# Altium footprint library LTC7872HLXEWPBF.PcbLib: 3 footprints
Each footprint in its own frame and in the unit in brackets; x right, y up, seen from the top. Pads: shape width x height; smd on the part's side, far side on the other; paste and mask are expansions set on the pad; w line width, h text height; cw(c..) or ccw(c..) is an arc to the next point about the centre after c.
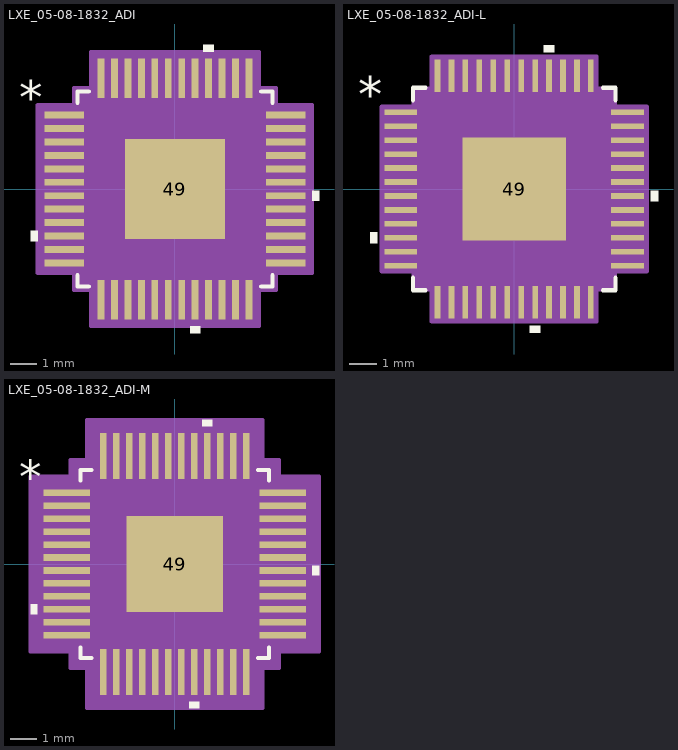
[diagram p0: the footprints below, top view; thin cyan lines are the x and y axes]

## LXE_05-08-1832_ADI [mil]
pads (49):
  rect 58x10 smd paste+0 mask+0: 1(-162,108.27) 2(-162,88.58) 3(-162,68.9) 4(-162,49.21) 5(-162,29.53) 6(-162,9.84) 7(-162,-9.84) 8(-162,-29.53) 9(-162,-49.21) 10(-162,-68.9) 11(-162,-88.58) 12(-162,-108.27) 25(162,-108.27) 26(162,-88.58) 27(162,-68.9) 28(162,-49.21) 29(162,-29.53) 30(162,-9.84) 31(162,9.84) 32(162,29.53) 33(162,49.21) 34(162,68.9) 35(162,88.58) 36(162,108.27)
  rect 10x58 smd paste+0 mask+0: 13(-108.27,-162) 14(-88.58,-162) 15(-68.9,-162) 16(-49.21,-162) 17(-29.53,-162) 18(-9.84,-162) 19(9.84,-162) 20(29.53,-162) 21(49.21,-162) 22(68.9,-162) 23(88.58,-162) 24(108.27,-162) 37(108.27,162) 38(88.58,162) 39(68.9,162) 40(49.21,162) 41(29.53,162) 42(9.84,162) 43(-9.84,162) 44(-29.53,162) 45(-49.21,162) 46(-68.9,162) 47(-88.58,162) 48(-108.27,162)
  rect 146x146 smd paste-72.5 mask+0: 49(0,0)
Top Overlay:
  region: 56.71,201 41.71,201 41.71,211 56.71,211
  region: 201,-2.34 211,-2.34 211,-17.34 201,-17.34
  region: 37.03,-201 22.03,-201 22.03,-211 37.03,-211
  region: -201,-61.4 -211,-61.4 -211,-76.4 -201,-76.4
  lines w6: -143,-126.37 -143,-143 -126.37,-143 ; -143,126.37 -143,143 -126.37,143 ; 126.37,-143 143,-143 143,-126.37 ; 126.37,143 143,143 143,126.37
  text ".Designator" at -137.5,-25 h50
  text "*" at -228.5,108.11 h50
Top Paste:
  region: 69.06,-3.94 3.94,-3.94 3.94,-69.06 69.06,-69.06
  region: 69.06,69.06 3.94,69.06 3.94,3.94 69.06,3.94
  region: -3.94,-3.94 -69.06,-3.94 -69.06,-69.06 -3.94,-69.06
  region: -3.94,69.06 -69.06,69.06 -69.06,3.94 -3.94,3.94
Mechanical 13:
  drawing of 197 lines, arcs and shapes, not listed
  text "*" at -135.5,93.11 h50
  text ".Designator" at -137.5,-25 h50
Mechanical 15:
  region: -123.27,-148 -148,-148 -148,-123.27 -201,-123.27 -201,123.27 -148,123.27 -148,148 -123.27,148 -123.27,201 123.27,201 123.27,148 148,148 148,123.27 201,123.27 201,-123.27 148,-123.27 148,-148 123.27,-148 123.27,-201 -123.27,-201
  lines w6: -201,-123.27 -201,123.27 -148,123.27 -148,148 -123.27,148 -123.27,201 123.27,201 123.27,148 148,148 148,123.27 201,123.27 201,-123.27 148,-123.27 148,-148 123.27,-148 123.27,-201 -123.27,-201 -123.27,-148 -148,-148 -148,-123.27 -201,-123.27
3D body "LXE_05-08-1832_ADI.step": height 63.11, standoff 0, extent -177.01,-177.01 177.01,177.01

## LXE_05-08-1832_ADI-L [mil]
pads (49):
  rect 46x8 smd paste+0 mask+0: 1(-160,108.27) 2(-160,88.58) 3(-160,68.9) 4(-160,49.21) 5(-160,29.53) 6(-160,9.84) 7(-160,-9.84) 8(-160,-29.53) 9(-160,-49.21) 10(-160,-68.9) 11(-160,-88.58) 12(-160,-108.27) 25(160,-108.27) 26(160,-88.58) 27(160,-68.9) 28(160,-49.21) 29(160,-29.53) 30(160,-9.84) 31(160,9.84) 32(160,29.53) 33(160,49.21) 34(160,68.9) 35(160,88.58) 36(160,108.27)
  rect 8x46 smd paste+0 mask+0: 13(-108.27,-160) 14(-88.58,-160) 15(-68.9,-160) 16(-49.21,-160) 17(-29.53,-160) 18(-9.84,-160) 19(9.84,-160) 20(29.53,-160) 21(49.21,-160) 22(68.9,-160) 23(88.58,-160) 24(108.27,-160) 37(108.27,160) 38(88.58,160) 39(68.9,160) 40(49.21,160) 41(29.53,160) 42(9.84,160) 43(-9.84,160) 44(-29.53,160) 45(-49.21,160) 46(-68.9,160) 47(-88.58,160) 48(-108.27,160)
  rect 146x146 smd paste-72.5 mask+0: 49(0,0)
Top Overlay:
  region: -193,-61.4 -203,-61.4 -203,-76.4 -193,-76.4
  region: 37.03,-193 22.03,-193 22.03,-203 37.03,-203
  region: 193,-2.34 203,-2.34 203,-17.34 193,-17.34
  region: 56.71,193 41.71,193 41.71,203 56.71,203
  lines w6: -143,-125.37 -143,-143 -125.37,-143 ; -143,125.37 -143,143 -125.37,143 ; 125.37,-143 143,-143 143,-125.37 ; 125.37,143 143,143 143,125.37
  text "*" at -220.5,108.11 h50
  text ".Designator" at -137.5,-25 h50
Top Paste:
  region: -3.94,69.06 -69.06,69.06 -69.06,3.94 -3.94,3.94
  region: -3.94,-3.94 -69.06,-3.94 -69.06,-69.06 -3.94,-69.06
  region: 69.06,69.06 3.94,69.06 3.94,3.94 69.06,3.94
  region: 69.06,-3.94 3.94,-3.94 3.94,-69.06 69.06,-69.06
Mechanical 13:
  drawing of 197 lines, arcs and shapes, not listed
  text ".Designator" at -137.5,-25 h50
  text "*" at -135.5,93.11 h50
Mechanical 15:
  region: -116.27,-142 -142,-142 -142,-116.27 -187,-116.27 -187,116.27 -142,116.27 -142,142 -116.27,142 -116.27,187 116.27,187 116.27,142 142,142 142,116.27 187,116.27 187,-116.27 142,-116.27 142,-142 116.27,-142 116.27,-187 -116.27,-187
  lines w6: -187,-116.27 -142,-116.27 -142,-142 -116.27,-142 -116.27,-187 116.27,-187 116.27,-142 142,-142 142,-116.27 187,-116.27 187,116.27 142,116.27 142,142 116.27,142 116.27,187 -116.27,187 -116.27,142 -142,142 -142,116.27 -187,116.27 -187,-116.27
3D body "LXE_05-08-1832_ADI.step": height 63.11, standoff 0, extent -177.01,-177.01 177.01,177.01

## LXE_05-08-1832_ADI-M [mil]
pads (49):
  rect 70x10 smd paste+0 mask+0: 1(-164,108.27) 2(-164,88.58) 3(-164,68.9) 4(-164,49.21) 5(-164,29.53) 6(-164,9.84) 7(-164,-9.84) 8(-164,-29.53) 9(-164,-49.21) 10(-164,-68.9) 11(-164,-88.58) 12(-164,-108.27) 25(164,-108.27) 26(164,-88.58) 27(164,-68.9) 28(164,-49.21) 29(164,-29.53) 30(164,-9.84) 31(164,9.84) 32(164,29.53) 33(164,49.21) 34(164,68.9) 35(164,88.58) 36(164,108.27)
  rect 10x70 smd paste+0 mask+0: 13(-108.27,-164) 14(-88.58,-164) 15(-68.9,-164) 16(-49.21,-164) 17(-29.53,-164) 18(-9.84,-164) 19(9.84,-164) 20(29.53,-164) 21(49.21,-164) 22(68.9,-164) 23(88.58,-164) 24(108.27,-164) 37(108.27,164) 38(88.58,164) 39(68.9,164) 40(49.21,164) 41(29.53,164) 42(9.84,164) 43(-9.84,164) 44(-29.53,164) 45(-49.21,164) 46(-68.9,164) 47(-88.58,164) 48(-108.27,164)
  rect 146x146 smd paste-72.5 mask+0: 49(0,0)
Top Overlay:
  region: -209,-61.4 -219,-61.4 -219,-76.4 -209,-76.4
  region: 37.03,-209 22.03,-209 22.03,-219 37.03,-219
  region: 209,-2.34 219,-2.34 219,-17.34 209,-17.34
  region: 56.71,209 41.71,209 41.71,219 56.71,219
  lines w6: -143,-126.37 -143,-143 -126.37,-143 ; -143,126.37 -143,143 -126.37,143 ; 126.37,-143 143,-143 143,-126.37 ; 126.37,143 143,143 143,126.37
  text "*" at -236.5,108.11 h50
  text ".Designator" at -137.5,-25 h50
Top Paste:
  region: -3.94,69.06 -69.06,69.06 -69.06,3.94 -3.94,3.94
  region: -3.94,-3.94 -69.06,-3.94 -69.06,-69.06 -3.94,-69.06
  region: 69.06,69.06 3.94,69.06 3.94,3.94 69.06,3.94
  region: 69.06,-3.94 3.94,-3.94 3.94,-69.06 69.06,-69.06
Mechanical 13:
  drawing of 197 lines, arcs and shapes, not listed
  text ".Designator" at -137.5,-25 h50
  text "*" at -135.5,93.11 h50
Mechanical 15:
  region: -133.27,-158 -158,-158 -158,-133.27 -219,-133.27 -219,133.27 -158,133.27 -158,158 -133.27,158 -133.27,219 133.27,219 133.27,158 158,158 158,133.27 219,133.27 219,-133.27 158,-133.27 158,-158 133.27,-158 133.27,-219 -133.27,-219
  lines w6: -219,-133.27 -158,-133.27 -158,-158 -133.27,-158 -133.27,-219 133.27,-219 133.27,-158 158,-158 158,-133.27 219,-133.27 219,133.27 158,133.27 158,158 133.27,158 133.27,219 -133.27,219 -133.27,158 -158,158 -158,133.27 -219,133.27 -219,-133.27
3D body "LXE_05-08-1832_ADI.step": height 63.11, standoff 0, extent -177.01,-177.01 177.01,177.01